# Altium footprint library CAPPM2014X170N.PcbLib: 1 footprints
Each footprint in its own frame and in the unit in brackets; x right, y up, seen from the top. Pads: shape width x height; smd on the part's side, far side on the other; paste and mask are expansions set on the pad; w line width, h text height; cw(c..) or ccw(c..) is an arc to the next point about the centre after c.
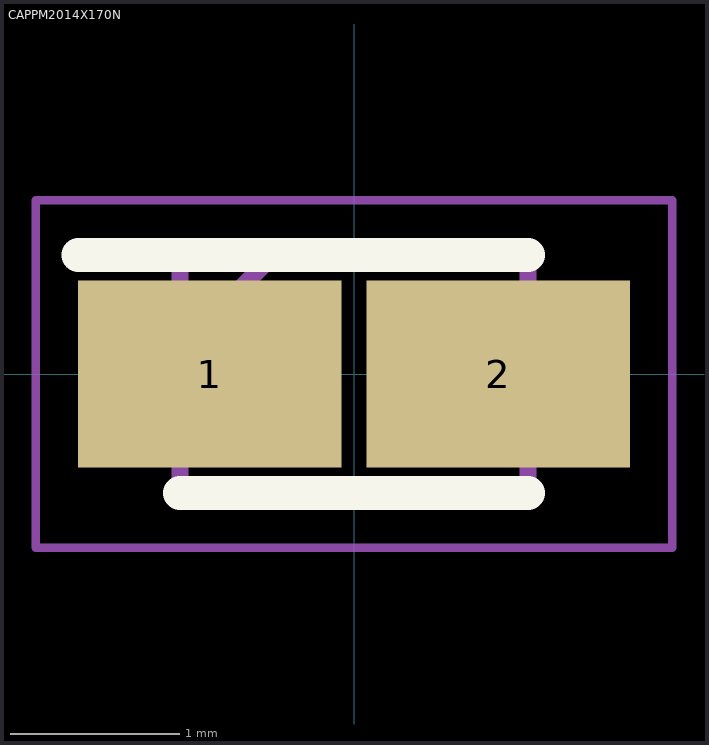
[diagram p0: the footprint, top view; thin cyan lines are the x and y axes]

## CAPPM2014X170N [mm]
pads (2):
  rect 1.55x1.1 smd: 1(-0.85,0) 2(0.85,0)
Top Overlay:
  lines w0.2: -1.625,0.7 1.025,0.7 ; -1.025,-0.7 1.025,-0.7
Mechanical 15:
  lines w0.1: -1.025,0.15 -0.475,0.7 ; -1.025,-0.7 1.025,-0.7 1.025,0.7 -1.025,0.7 -1.025,-0.7
Mechanical 20:
  lines w0.05: -1.875,-1.025 1.875,-1.025 1.875,1.025 -1.875,1.025 -1.875,-1.025